# EAGLE library part ESP-PSRAM (library we-chip)
Espressif ESP-PSRAM Pseudo-SRAM 16 - 16MBit, 1.8V 16H - 16MBit, 3.3V 64 - 64MBit, 1.8V 64H - 64MBit, 3.3V
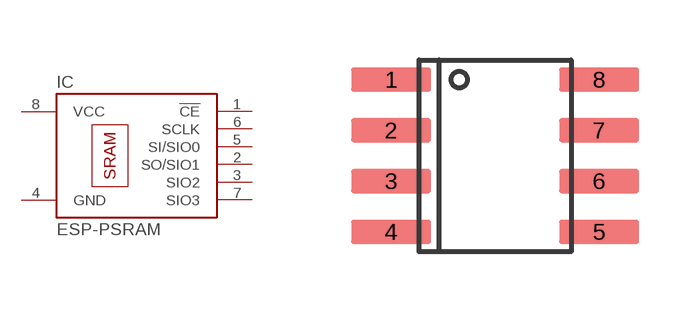
[diagram p61: symbol with the pads of SO08; footprint SO08]

Designator prefix IC

## ESP-PSRAM64H  [SO08]
1  !CE  in
2  SO/SIO1
3  SIO2
4  GND  pwr
5  SI/SIO0
6  SCLK  in
7  SIO3
8  VCC  pwr

## ESP-PSRAM16H  [SO08]
Pads as for SO08

## Footprint SO08 (pad centres in mm)
smd 2 x 0.6: 1 -2.6,1.905; 2 -2.6,0.635; 3 -2.6,-0.635; 4 -2.6,-1.905; 5 2.6,-1.905; 6 2.6,-0.635; 7 2.6,0.635; 8 2.6,1.905